# Altium schematic symbol library TXS02612RTWR.SchLib: 2 symbols
Pins are listed as number, name and electrical type; pins without a type are passive.

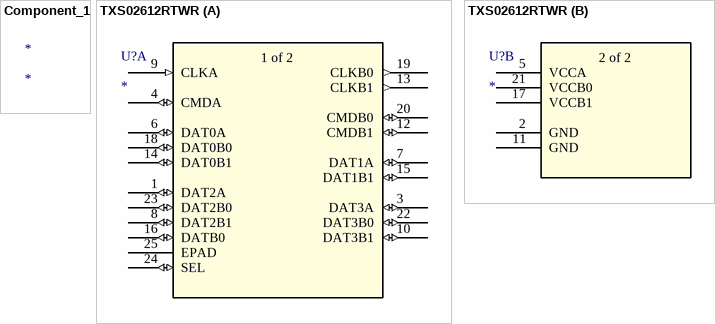
[diagram p0: symbols Component_1 to TXS02612RTWR]

## Component_1
designator *

## TXS02612RTWR
designator U?
No Description Available; Mfr_Name: Texas Instruments; RefDes: RefDes; Type: Type
footprint RTW24_2P45X2P45
part A pins: 1 DAT2A (io), 3 DAT3A (io), 4 CMDA (io), 6 DAT0A (io), 7 DAT1A (io), 8 DAT2B1 (io), 9 CLKA (in), 10 DAT3B1 (io), 12 CMDB1 (io), 13 CLKB1 (out), 14 DAT0B1 (io), 15 DAT1B1 (io), 16 DATB0 (io), 18 DAT0B0 (io), 19 CLKB0 (out), 20 CMDB0 (io), 22 DAT3B0 (io), 23 DAT2B0 (io), 24 SEL (io), 25 EPAD
part B pins: 2 GND (power), 5 VCCA (power), 11 GND (power), 17 VCCB1 (power), 21 VCCB0 (power)
part A text: 1 of 2
part B text: 2 of 2